# Altium footprint library RS-10.PcbLib: 1 footprints
Each footprint in its own frame and in the unit in brackets; x right, y up, seen from the top. Pads: shape width x height; smd on the part's side, far side on the other; paste and mask are expansions set on the pad; w line width, h text height; cw(c..) or ccw(c..) is an arc to the next point about the centre after c.
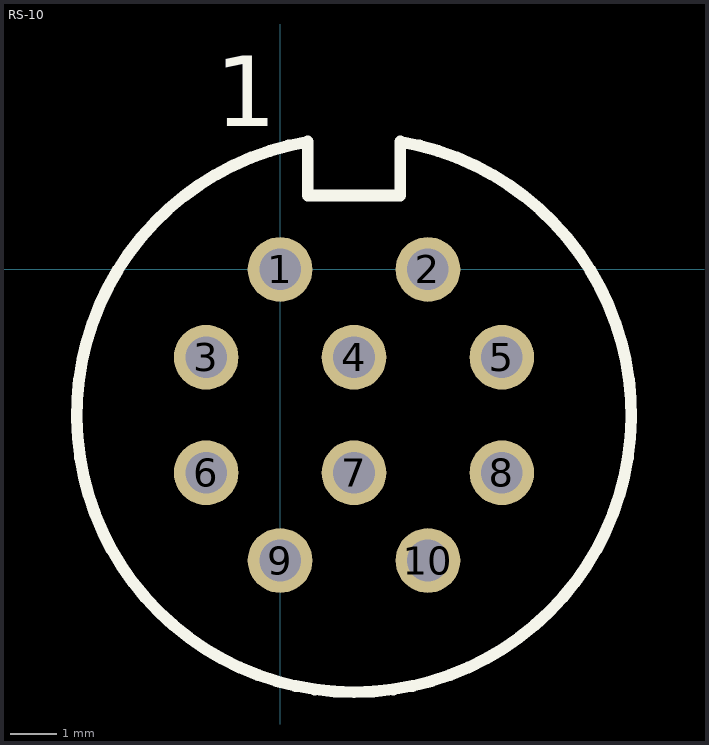
[diagram p0: the footprint, top view; thin cyan lines are the x and y axes]

## RS-10 [mm]
pads (10):
  round 1.4 hole 0.9: 1(0,0) 2(3.2,0) 3(-1.6,-1.9) 4(1.6,-1.9) 5(4.8,-1.9) 6(-1.6,-4.4) 7(1.6,-4.4) 8(4.8,-4.4) 9(0,-6.3) 10(3.2,-6.3)
Top Overlay:
  lines w0.254: 0.6,2.768 0.6,1.6 2.6,1.6 2.6,2.768 ; 0.6,2.766 ccw(c1.6,-3.15) 2.6,2.766
  text "1" at -1.4,3.1 h1.52